# Altium schematic symbol library ServoLib.SchLib: 2 symbols
Pins are listed as number, name and electrical type; pins without a type are passive.

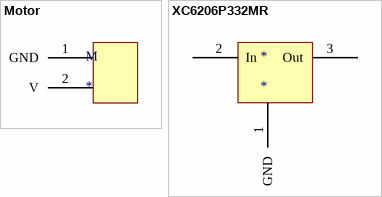
[diagram p0: symbols Motor to XC6206P332MR]

## Motor
designator M
Existing servo dc motor
footprint PCBComponent_1
pins: 1 GND, 2 V

## XC6206P332MR
designator *
footprint SOT23-3
pins: 1 GND, 2 In, 3 Out